# Altium schematic symbol library Modules.SchLib: 7 symbols
Pins are listed as number, name and electrical type; pins without a type are passive.

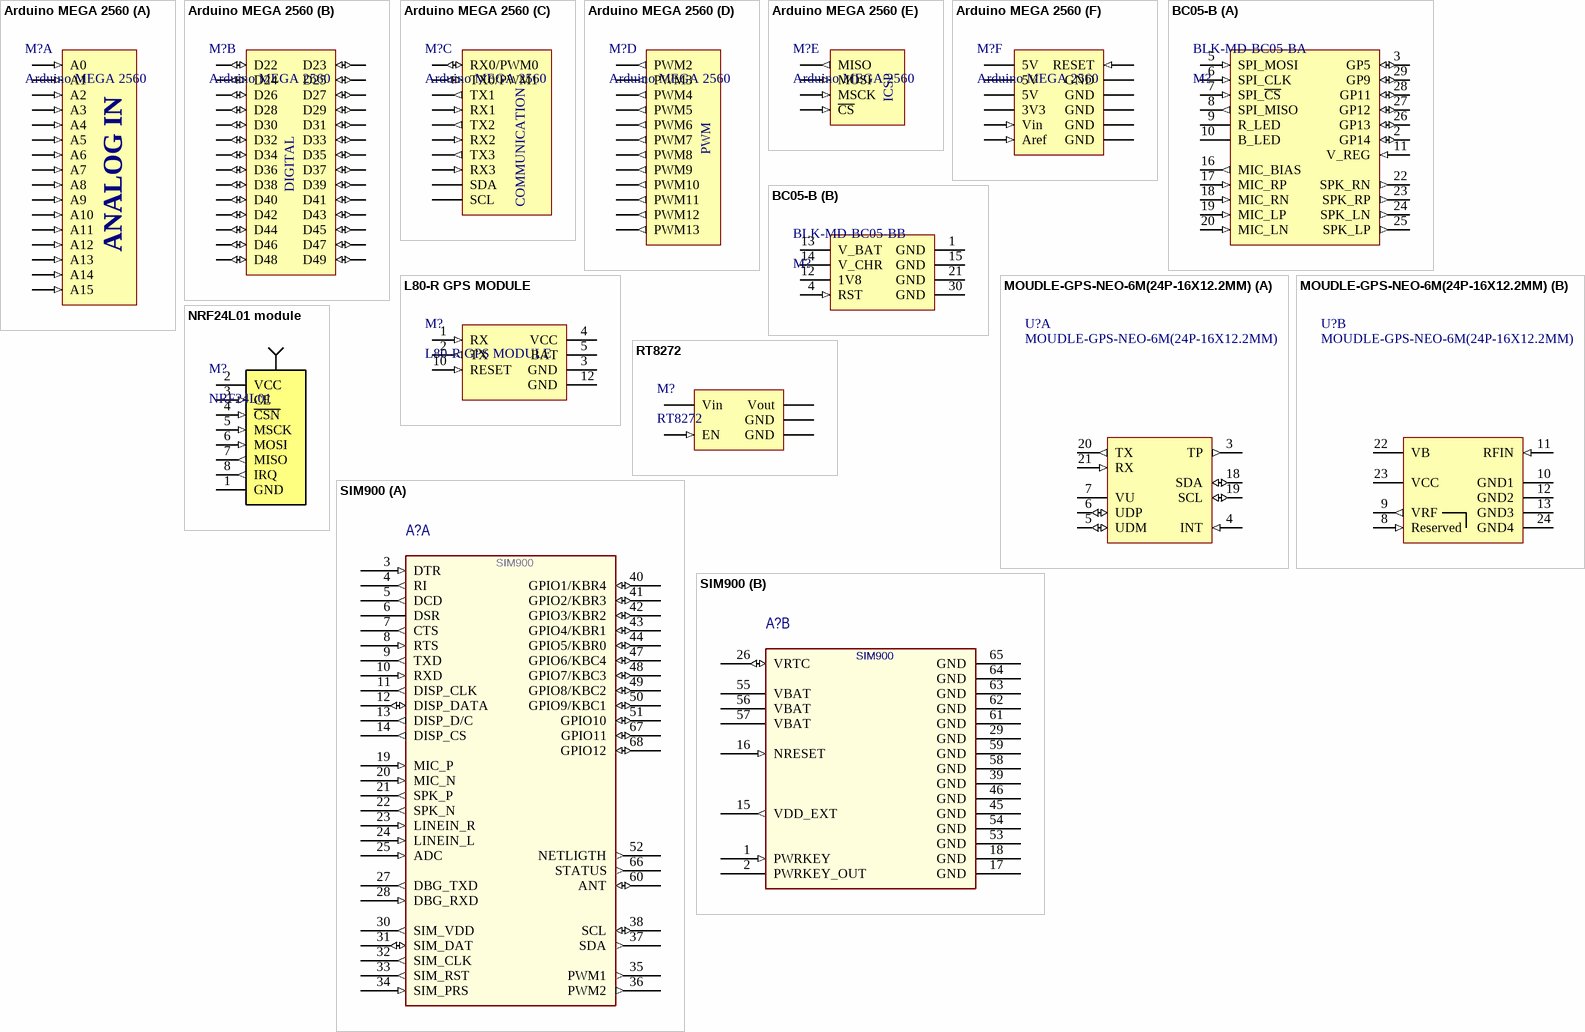
[diagram p0: symbols Arduino MEGA 2560 to SIM900]

## Arduino MEGA 2560
designator M?
footprint Arduino MEGA 2560 (Arduino Mega 2560)
part A pins: 60 A0 (in), 61 A1 (in), 62 A2 (in), 63 A3 (in), 64 A4 (in), 65 A5 (in), 66 A6 (in), 67 A7 (in), 68 A8 (in), 69 A9 (in), 70 A10 (in), 71 A11 (in), 72 A12 (in), 73 A13 (in), 74 A14 (in), 75 A15 (in)
part B pins: 22 D22 (io), 23 D23 (io), 24 D24 (io), 25 D25 (io), 26 D26 (io), 27 D27 (io), 28 D28 (io), 29 D29 (io), 30 D30 (io), 31 D31 (io), 32 D32 (io), 33 D33 (io), 34 D34 (io), 35 D35 (io), 36 D36 (io), 37 D37 (io), 38 D38 (io), 39 D39 (io), 40 D40 (io), 41 D41 (io), 42 D42 (io), 43 D43 (io), 44 D44 (io), 45 D45 (io), 46 D46 (io), 47 D47 (io), 48 D48 (io), 49 D49 (io)
part C pins: 0 RX0/PWM0 (io), 1 TX0/PWM1 (io), 14 TX3 (out), 15 RX3 (in), 16 TX2 (out), 17 RX2 (in), 18 TX1 (out), 19 RX1 (in), 20 SDA (oc), 21 SCL (oc)
part D pins: 2 PWM2 (out), 3 PWM3 (out), 4 PWM4 (out), 5 PWM5 (out), 6 PWM6 (out), 7 PWM7 (out), 8 PWM8 (out), 9 PWM9 (out), 10 PWM10 (out), 11 PWM11 (out), 12 PWM12 (out), 13 PWM13 (out)
part E pins: 50 MISO (out), 51 MOSI (in), 52 MSCK (in), 53 ~{CS} (in)
part F pins: 54 RESET (in), 55 3V3 (power), 56 5V (power), 57 GND (power), 58 GND (power), 59 Vin (in), 76 GND (power), 77 Aref (in), 78 GND (power), 79 GND (power), 80 5V (power), 81 5V (power)
part A text: ANALOG IN
part B text: DIGITAL
part C text: COMMUNICATION
part D text: PWM
part E text: ICSP

## BC05-B
designator BLK-MD-BC05-B, comment M?
BC05 Bluetooth Module
footprint BC05-B Audio Bluetooth
part A pins: 2 GP14 (io), 3 GP5 (io), 5 SPI_MOSI (in), 6 SPI_CLK (in), 7 SPI_~{CS} (in), 8 SPI_MISO (out), 9 R_LED (oc), 10 B_LED (oc), 11 V_REG (in), 16 MIC_BIAS (out), 17 MIC_RP (in), 18 MIC_RN (in), 19 MIC_LP (in), 20 MIC_LN (in), 22 SPK_RN (out), 23 SPK_RP (out), 24 SPK_LN (out), 25 SPK_LP (out), 26 GP13 (io), 27 GP12 (io), 28 GP11 (io), 29 GP9 (io)
part B pins: 1 GND (power), 4 RST (in), 12 1V8 (power), 13 V_BAT (power), 14 V_CHR (power), 15 GND (power), 21 GND (power), 30 GND (power)

## L80-R GPS MODULE
designator M?
footprint L80-R GPS MODULE
pins: 1 RX (in), 2 TX (out), 3 GND (power), 4 VCC (power), 5 BAT (power), 10 RESET (in), 12 GND (power)

## MOUDLE-GPS-NEO-6M(24P-16X12.2MM)
designator U?
SMD GPS Module;; MP: NEO-6M-GPS; MF: u-blox; Price: None; SnapEDA_Link: https://www.snapeda.com/parts/NEO-6M-GPS/u-blox/view-part/?ref=snap; Package: None; Availability: Unavailable; Value: *
footprint GPS24P-SMD-1.1-16X12.2MM
part A pins: 3 TP (out), 4 INT (in), 5 UDM (io), 6 UDP (io), 7 VU (power), 18 SDA (io), 19 SCL (io), 20 TX (out), 21 RX (in)
part B pins: 8 Reserved (in), 9 VRF (out), 10 GND1 (power), 11 RFIN (in), 12 GND2 (power), 13 GND3 (power), 22 VB (power), 23 VCC (power), 24 GND4 (power)

## NRF24L01 module
designator M?, comment NRF24L01
2.4GHz transiver/receiver
footprint NRF24L01+LNA Module 8pin
pins: 1 GND (power), 2 VCC (power), 3 CE (in), 4 ~{CSN} (in), 5 MSCK (in), 6 MOSI (in), 7 MISO (out), 8 IRQ (out)

## RT8272
designator M?
3A, 24V, 1.2MHz Step-Down Converter; Vin: 4.75V ~ 24V; Imax: 3A; Freq: 1.2MHz
footprint RT8272 module (3A, 24V, 1.2MHz Step-Down Converter)
pins: EN (in) "PULL UP ACTIVE HIGH", IN+ Vin (power), IN- GND (power), OUT+ Vout (power), OUT- GND (power)

## SIM900
designator A?  (value not drawn)
footprint SIM900 (QFN, 68-Leads, Body 24,0x24,0mm (max), Pitch 1,00mm, IPC Low Density)
footprint SIM900A (SIM900A, 68-Leads, Body 24,00x24,00mm, Pitch 1,00mm, IPC Medium Density)
part A pins: 3 DTR (in), 4 RI (out), 5 DCD (out), 6 DSR, 7 CTS (out), 8 RTS (in), 9 TXD (out), 10 RXD (in), 11 DISP_CLK (out), 12 DISP_DATA (io), 13 DISP_D/C (out), 14 DISP_CS (out), 19 MIC_P (in), 20 MIC_N (in), 21 SPK_P (out), 22 SPK_N (out), 23 LINEIN_R (in), 24 LINEIN_L (in), 25 ADC (in), 27 DBG_TXD (out), 28 DBG_RXD (in), 30 SIM_VDD (out), 31 SIM_DAT (io), 32 SIM_CLK (out), 33 SIM_RST (out), 34 SIM_PRS (in), 35 PWM1 (out), 36 PWM2 (out), 37 SDA (out), 38 SCL (io), 40 GPIO1/KBR4 (io), 41 GPIO2/KBR3 (io), 42 GPIO3/KBR2 (io), 43 GPIO4/KBR1 (io), 44 GPIO5/KBR0 (io), 47 GPIO6/KBC4 (io), 48 GPIO7/KBC3 (io), 49 GPIO8/KBC2 (io), 50 GPIO9/KBC1 (io), 51 GPIO10 (io), 52 NETLIGTH (out), 60 ANT (io), 66 STATUS (out), 67 GPIO11 (io), 68 GPIO12 (io)
part B pins: 1 PWRKEY (in), 2 PWRKEY_OUT, 15 VDD_EXT (out), 16 NRESET (in), 17 GND (power), 18 GND (power), 26 VRTC (io), 29 GND (power), 39 GND (power), 45 GND (power), 46 GND (power), 53 GND (power), 54 GND (power), 55 VBAT (power), 56 VBAT (power), 57 VBAT (power), 58 GND (power), 59 GND (power), 61 GND (power), 62 GND (power), 63 GND (power), 64 GND (power), 65 GND (power)